# Altium footprint library PCB - CONNECTOR - GCT - GCT FFC2B28-24.PCBLIB: 1 footprints
Each footprint in its own frame and in the unit in brackets; x right, y up, seen from the top. Pads: shape width x height; smd on the part's side, far side on the other; paste and mask are expansions set on the pad; w line width, h text height; cw(c..) or ccw(c..) is an arc to the next point about the centre after c.
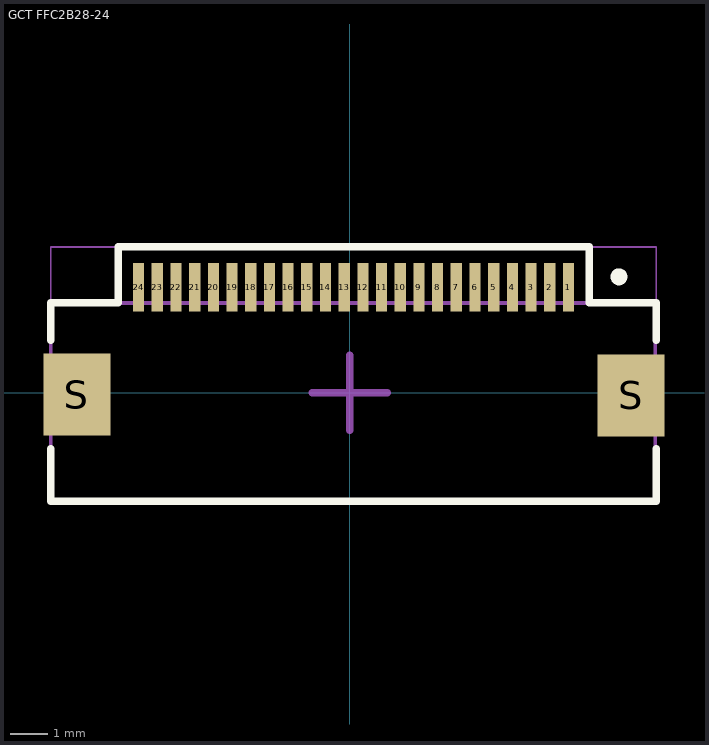
[diagram p0: the footprint, top view; thin cyan lines are the x and y axes]

## GCT FFC2B28-24 [mm] "24 Position FFC, FPC Connector Contacts, Top and Bottom 0.020\" (0.50mm) Surface Mount, Right Angle"
height 1
pads (26):
  rect 0.3x1.3 smd: 1(5.85,2.825) 2(5.35,2.825) 3(4.85,2.825) 4(4.35,2.825) 5(3.85,2.825) 6(3.35,2.825) 7(2.85,2.825) 8(2.35,2.825) 9(1.85,2.825) 10(1.35,2.825) 11(0.85,2.825) 12(0.35,2.825) 13(-0.15,2.825) 14(-0.65,2.825) 15(-1.15,2.825) 16(-1.65,2.825) 17(-2.15,2.825) 18(-2.65,2.825) 19(-3.15,2.825) 20(-3.65,2.825) 21(-4.15,2.825) 22(-4.65,2.825) 23(-5.15,2.825) 24(-5.65,2.825)
  rect 1.8x2.2 smd: S(-7.3,-0.05) S(7.525,-0.075)
Top Overlay:
  circle w0.254: c7.2,3.1 r0.1
  lines w0.2: -8,-1.5 -8,-2.9 8.2,-2.9 8.2,-1.5 ; -8,1.4 -8,2.4 -6.2,2.4 -6.2,3.9 6.4,3.9 6.4,2.4 8.2,2.4 8.2,1.4
Mechanical 13:
  lines w0.1: 8.175,-2.875 -8,-2.875 -8,2.4 8.175,2.4 8.175,-2.85
Mechanical 15:
  lines w0.05: -8,-2.9 8.2,-2.9 8.2,3.9 -8,3.9 -8,-2.9
  lines w0.2: -1,0 1,0 ; 0,-1 0,1
3D body "52892-2495.stp": height 2, standoff -0.04, extent -8.6,-2.4 8.8,3.1